# EAGLE library part CD74HC4051E (library CD74HC4051E)
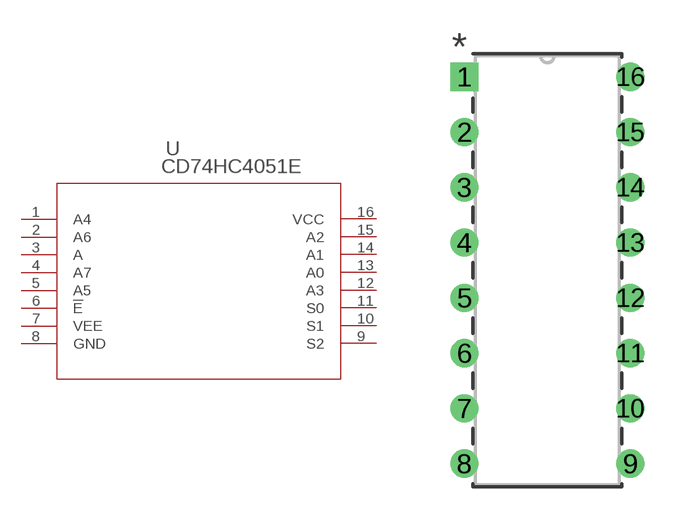
[diagram p0: symbol with the pads of N16; footprint N16]

Designator prefix U

## CD74HC4051E (DATASHEET_URL: http://www.ti.com/lit/gpn/CD74HC4051; DESCRIPTION: High Speed CMOS 8-Channel Analog Multiplexer/Demultiplexer; FAMILY_NAME: ANALOG SWITCH/MULTIPLEXER(less than or equal to 5V); GENERIC_PART_NUMBER: CD74HC4051; INDUSTRY_STD_PKG_TYPE: PDIP; MANUFACTURER: Texas Instruments; PACKAGE_DESIGNATOR: N; PIN_COUNT: 16)  [N16]
1  A4
2  A6
3  A
4  A7
5  A5
6  !E  in
7  VEE  pwr
8  GND  pwr
9  S2
10  S1
11  S0
12  A3
13  A0
14  A1
15  A2
16  VCC  pwr

## Footprint N16 (pad centres in mm)
drill 0.787 pad 1.295 square: 1 0,0
drill 0.787 pad 1.295: 2 0,-2.54; 3 0,-5.08; 4 0,-7.62; 5 0,-10.16; 6 0,-12.7; 7 0,-15.24; 8 0,-17.78; 9 7.62,-17.78; 10 7.62,-15.24; 11 7.62,-12.7; 12 7.62,-10.16; 13 7.62,-7.62; 14 7.62,-5.08; 15 7.62,-2.54; 16 7.62,0